# EAGLE library part ARDUINO_UNO_SMALL (library E14_Arduino_revC)
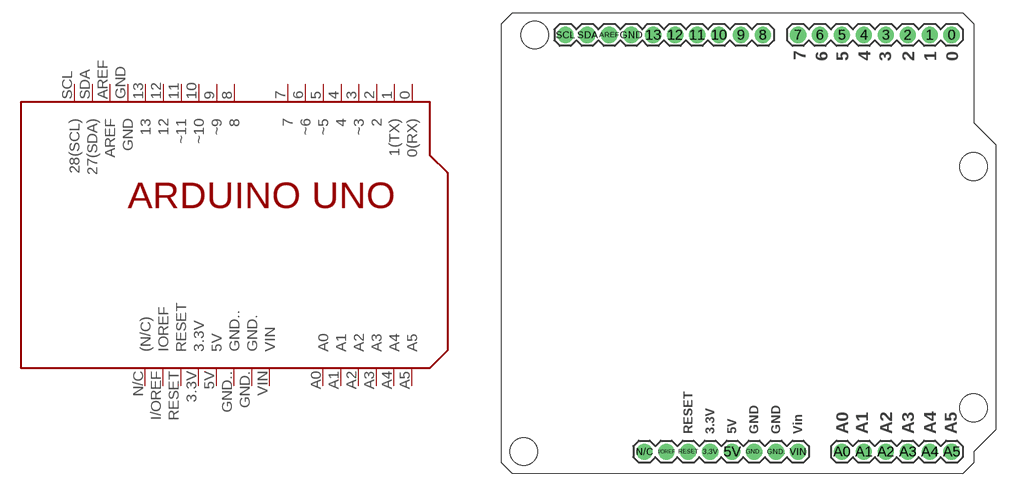
[diagram p10: symbol with the pads of ARDUINO_UNO_SMALL; footprint ARDUINO_UNO_SMALL]

Designator prefix -

## ARDUINO_UNO_SMALL  [ARDUINO_UNO_SMALL]
0  0(RX)
1  1(TX)
2  2
3  ~3
3.3V  3.3V
4  4
5  ~5
5V  5V
6  ~6
7  7
8  8
9  ~9
10  ~10
11  ~11
12  12
13  13
A0  A0
A1  A1
A2  A2
A3  A3
A4  A4
A5  A5
AREF  AREF
GND  GND
GND.  GND.
GND..  GND..
I/OREF  IOREF
N/C  (N/C)
RESET  RESET
SCL  28(SCL)
SDA  27(SDA)
VIN  VIN

## Footprint ARDUINO_UNO_SMALL (pad centres in mm)
drill 1.016 pad 1.88: 0 31.75,24.13; 1 29.21,24.13; 2 26.67,24.13; 3 24.13,24.13; 3.3V 3.81,-24.13; 4 21.59,24.13; 5 19.05,24.13; 5V 6.35,-24.13; 6 16.51,24.13; 7 13.97,24.13; 8 9.906,24.13; 9 7.366,24.13; 10 4.826,24.13; 11 2.286,24.13; 12 -0.254,24.13; 13 -2.794,24.13; A0 19.05,-24.13; A1 21.59,-24.13; A2 24.13,-24.13; A3 26.67,-24.13; A4 29.21,-24.13; A5 31.75,-24.13; AREF -7.874,24.13; GND -5.334,24.13; GND. 11.43,-24.13; GND.. 8.89,-24.13; I/OREF -1.27,-24.13; N/C -3.81,-24.13; RESET 1.27,-24.13; SCL -12.954,24.13; SDA -10.414,24.13; VIN 13.97,-24.13
hole 3.2 at 34.29,-19.05
hole 3.2 at 34.29,8.89
hole 3.2 at -16.51,24.13
hole 3.2 at -17.78,-24.13